# EAGLE library part SLVU2.8-4 (library ek-tm4c129exl)
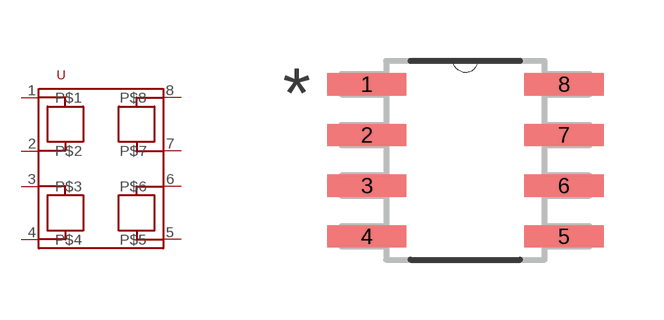
[diagram p5: symbol with the pads of D8; footprint D8]

Designator prefix -

## SLVU2.8-4  [D8]
1  P$1
2  P$2
3  P$3
4  P$4
5  P$5
6  P$6
7  P$7
8  P$8

## Footprint D8 (pad centres in mm)
smd 1.981 x 0.559: 1 -2.464,1.905; 2 -2.464,0.635; 3 -2.464,-0.635; 4 -2.464,-1.905; 5 2.464,-1.905; 6 2.464,-0.635; 7 2.464,0.635; 8 2.464,1.905